# EAGLE library part CASSETTEPLUG (library GM cassette faker)
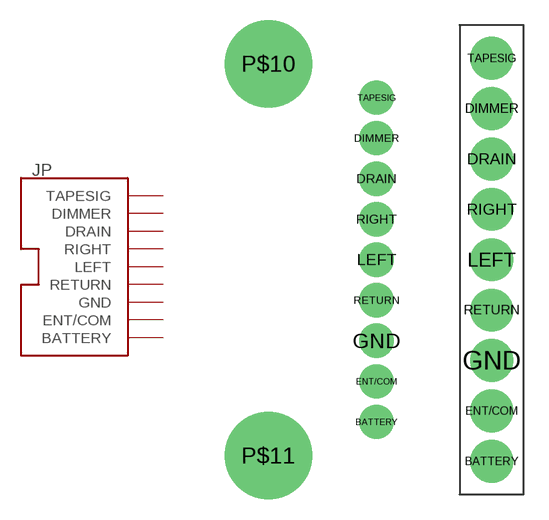
[diagram p3: symbol with the pads of 9WAYMICROPACK100; footprints 9WAYMICROPACK100, 9PINCONNECTOR]

Designator prefix JP

## CASSETTEPLUG  [9WAYMICROPACK100]
BATTERY  BATTERY
DIMMER  DIMMER
DRAIN  DRAIN
ENT/COM  ENT/COM
GND  GND
LEFT  LEFT
P$10  GND
P$11  GND
RETURN  RETURN
RIGHT  RIGHT
TAPESIG  TAPESIG

## CASSETTEPLUGSTRAIGHT  [9PINCONNECTOR]
BATTERY  BATTERY
DIMMER  DIMMER
DRAIN  DRAIN
ENT/COM  ENT/COM
GND  GND
LEFT  LEFT
RETURN  RETURN
RIGHT  RIGHT
TAPESIG  TAPESIG

## Footprint 9WAYMICROPACK100 (pad centres in mm)
drill 1.2 pad 2.54: BATTERY 0,-12; DIMMER 0,9; DRAIN 0,6; ENT/COM 0,-9; GND 0,-6; LEFT 0,0; RETURN 0,-3; RIGHT 0,3; TAPESIG 0,12
drill 2 pad 6.452: P$10 -8,14.5; P$11 -8,-14.5

## Footprint 9PINCONNECTOR (pad centres in mm)
drill 1.2 pad 2.54: BATTERY 0,-12; DIMMER 0,9; DRAIN 0,6; ENT/COM 0,-9; GND 0,-6; LEFT 0,0; RETURN 0,-3; RIGHT 0,3; TAPESIG 0,12